# Altium integrated library CH559.IntLib: 1 symbol
Pins are listed as number, name and electrical type; pins without a type are passive.

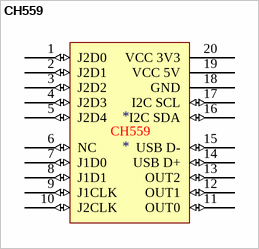
[diagram p0: symbol CH559]

## CH559
designator *
footprint SSOP20
pins: 1 J2D0 (io), 2 J2D1 (io), 3 J2D2 (io), 4 J2D3 (io), 5 J2D4 (io), 6 NC (io), 7 J1D0 (io), 8 J1D1 (io), 9 J1CLK (io), 10 J2CLK (io), 11 OUT0 (io), 12 OUT1 (io), 13 OUT2 (io), 14 USB D+ (io), 15 USB D- (io), 16 I2C SDA (io), 17 I2C SCL (io), 18 GND (power), 19 VCC 5V (power), 20 VCC 3V3 (power)